# EAGLE library part LC8632XXA (library THU VIEN MOI)
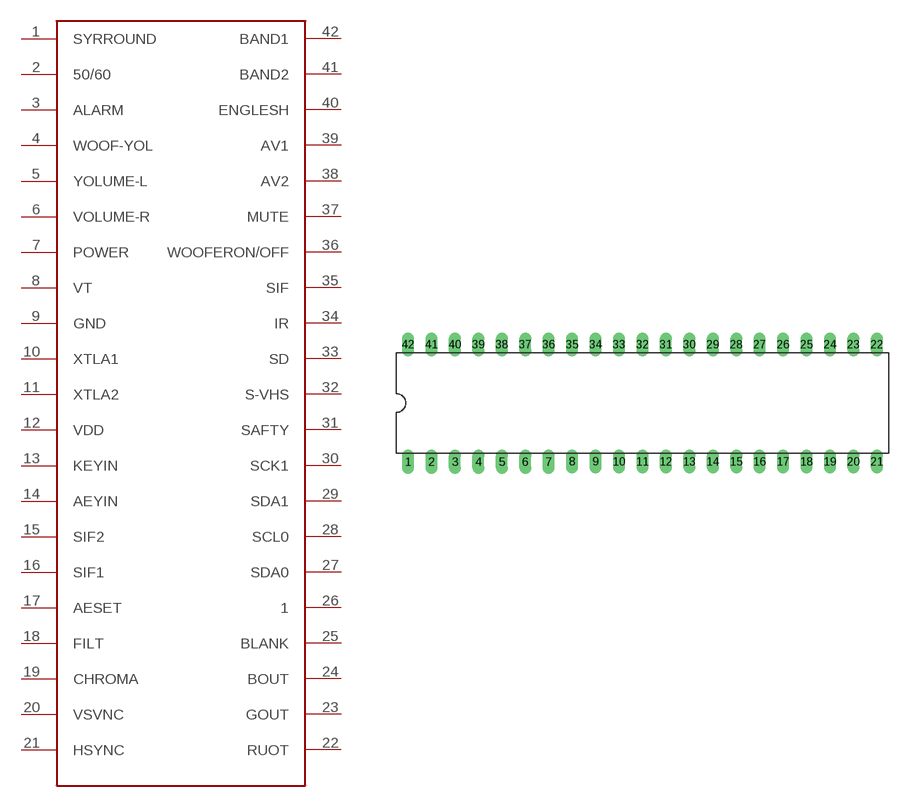
[diagram p1: symbol with the pads of LC8632XXA; footprint LC8632XXA]

Designator prefix -

## LC8632XXAX  [LC8632XXA]
1  SYRROUND
2  50/60
3  ALARM
4  WOOF-YOL
5  YOLUME-L
6  VOLUME-R
7  POWER
8  VT
9  GND
10  XTLA1
11  XTLA2
12  VDD
13  KEYIN
14  AEYIN
15  SIF2
16  SIF1
17  AESET
18  FILT
19  CHROMA
20  VSVNC
21  HSYNC
22  RUOT
23  GOUT
24  BOUT
25  BLANK
26  1
27  SDA0
28  SCL0
29  SDA1
30  SCK1
31  SAFTY
32  S-VHS
33  SD
34  IR
35  SIF
36  WOOFERON/OFF
37  MUTE
38  AV2
39  AV1
40  ENGLESH
41  BAND2
42  BAND1

## Footprint LC8632XXA (pad centres in mm)
drill 0.813 long: 1 -12.7,-2.54; 2 -10.16,-2.54; 3 -7.62,-2.54; 4 -5.08,-2.54; 5 -2.54,-2.54; 6 0,-2.54; 7 2.54,-2.54; 36 2.54,10.16; 37 0,10.16; 38 -2.54,10.16; 39 -5.08,10.16; 40 -7.62,10.16; 41 -10.16,10.16; 42 -12.7,10.16
drill 0.8 long: 8 5.08,-2.54; 9 7.62,-2.54; 10 10.16,-2.54; 11 12.7,-2.54; 12 15.24,-2.54; 13 17.78,-2.54; 14 20.32,-2.54; 15 22.86,-2.54; 16 25.4,-2.54; 17 27.94,-2.54; 18 30.48,-2.54; 19 33.02,-2.54; 20 35.56,-2.54; 21 38.1,-2.54; 22 38.1,10.16; 23 35.56,10.16; 24 33.02,10.16; 25 30.48,10.16; 26 27.94,10.16; 27 25.4,10.16; 28 22.86,10.16; 29 20.32,10.16; 30 17.78,10.16; 31 15.24,10.16; 32 12.7,10.16; 33 10.16,10.16; 34 7.62,10.16; 35 5.08,10.16